# Altium schematic symbol library SJ-2524.Schlib: 1 symbol
Pins are listed as number, name and electrical type; pins without a type are passive.

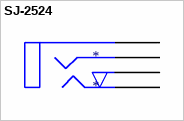
[diagram p0: symbol SJ-2524]

## SJ-2524
designator *
pins: 1, 2, 3, 4  